# EAGLE library part HEADER-12 (library ITP_Eagle)
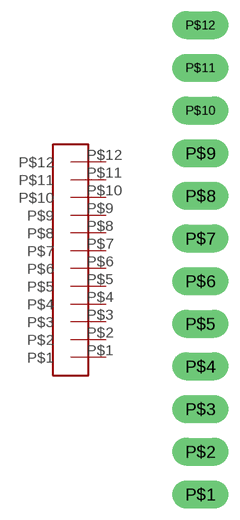
[diagram p9: symbol with the pads of HEADER-12; footprint HEADER-12]

Designator prefix -

## HEADER-12  [HEADER-12]
P$1  P$1
P$2  P$2
P$3  P$3
P$4  P$4
P$5  P$5
P$6  P$6
P$7  P$7
P$8  P$8
P$9  P$9
P$10  P$10
P$11  P$11
P$12  P$12

## Footprint HEADER-12 (pad centres in mm)
drill 1.016 pad 1.676 long: P$1 0,0; P$2 0,2.54; P$3 0,5.08; P$4 0,7.62; P$5 0,10.16; P$6 0,12.7; P$7 0,15.24; P$8 0,17.78; P$9 0,20.32; P$10 0,22.86; P$11 0,25.4; P$12 0,27.94